# EAGLE library part MICROSD_SPI (library barthess)
microSD Socket Push-push type uSD socket. Schematic element for SPI based names.
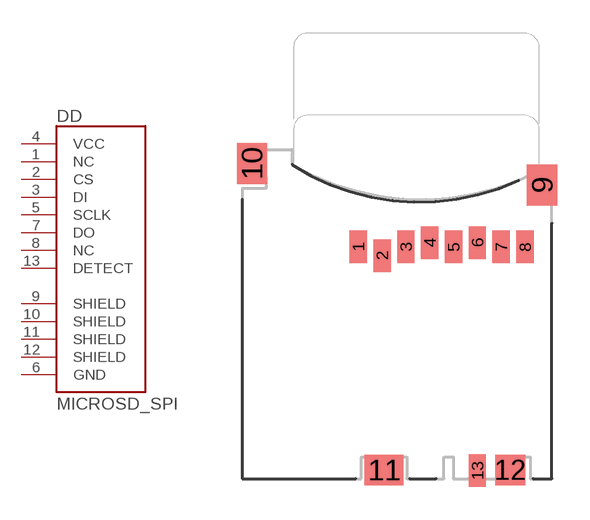
[diagram p4: symbol with the pads of MICROSD; footprint MICROSD]

Designator prefix DD

## MICROSD_SPI  [MICROSD]
1  NC  nc
2  CS  in
3  DI  in
4  VCC  pwr
5  SCLK  in
6  GND  pwr
7  DO  out
8  NC  nc
9  SHIELD  pwr
10  SHIELD  pwr
11  SHIELD  pwr
12  SHIELD  pwr
13  DETECT  out

## Footprint MICROSD (pad centres in mm)
smd 0.8 x 1.5: 1 -1.94,2.7; 2 -0.84,2.3; 3 0.26,2.7; 4 1.36,2.9; 5 2.46,2.7; 6 3.56,2.9; 7 4.66,2.7; 8 5.76,2.7; 13 3.56,-7.641
smd 1.4 x 1.9: 9 6.55,5.55; 10 -6.85,6.55
smd 1.8 x 1.4: 11 -0.75,-7.6
smd 1.4 x 1.4: 12 5.077,-7.6